# EAGLE library part MOD_MDBT40 (library akita)
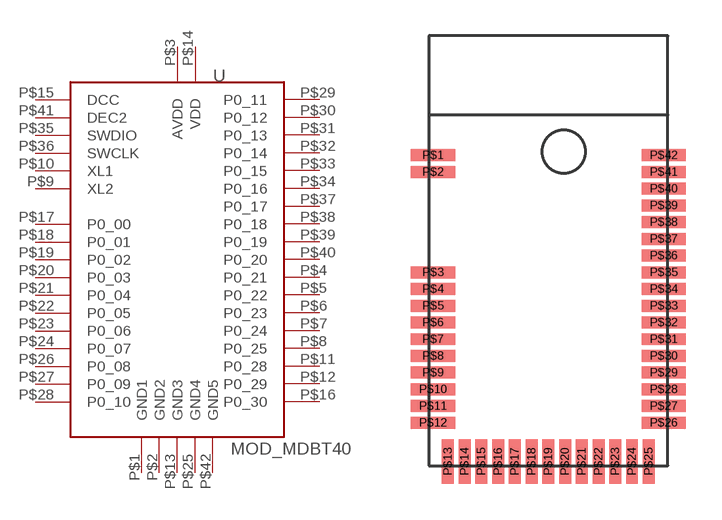
[diagram p124: symbol with the pads of MOD_MDBT40; footprint MOD_MDBT40]

Designator prefix -

## MOD_MDBT40  [MOD_MDBT40]
P$1  GND1
P$2  GND2
P$3  AVDD
P$4  P0_21
P$5  P0_22
P$6  P0_23
P$7  P0_24
P$8  P0_25
P$9  XL2
P$10  XL1
P$11  P0_28
P$12  P0_29
P$13  GND3
P$14  VDD
P$15  DCC
P$16  P0_30
P$17  P0_00
P$18  P0_01
P$19  P0_02
P$20  P0_03
P$21  P0_04
P$22  P0_05
P$23  P0_06
P$24  P0_07
P$25  GND4
P$26  P0_08
P$27  P0_09
P$28  P0_10
P$29  P0_11
P$30  P0_12
P$31  P0_13
P$32  P0_14
P$33  P0_15
P$34  P0_16
P$35  SWDIO
P$36  SWCLK
P$37  P0_17
P$38  P0_18
P$39  P0_19
P$40  P0_20
P$41  DEC2
P$42  GND5

## Footprint MOD_MDBT40 (pad centres in mm)
smd 1.85 x 0.5: P$1 -4.825,4; P$2 -4.825,3.3; P$3 -4.825,-0.9; P$4 -4.825,-1.6; P$5 -4.825,-2.3; P$6 -4.825,-3; P$7 -4.825,-3.7; P$8 -4.825,-4.4; P$9 -4.825,-5.1; P$10 -4.825,-5.8; P$11 -4.825,-6.5; P$12 -4.825,-7.2; P$26 4.825,-7.2; P$27 4.825,-6.5; P$28 4.825,-5.8; P$29 4.825,-5.1; P$30 4.825,-4.4; P$31 4.825,-3.7; P$32 4.825,-3; P$33 4.825,-2.3; P$34 4.825,-1.6; P$35 4.825,-0.9; P$36 4.825,-0.2; P$37 4.825,0.5; P$38 4.825,1.2; P$39 4.825,1.9; P$40 4.825,2.6; P$41 4.825,3.3; P$42 4.825,4
smd 0.5 x 1.85: P$13 -4.2,-8.825; P$14 -3.5,-8.825; P$15 -2.8,-8.825; P$16 -2.1,-8.825; P$17 -1.4,-8.825; P$18 -0.7,-8.825; P$19 0,-8.825; P$20 0.7,-8.825; P$21 1.4,-8.825; P$22 2.1,-8.825; P$23 2.8,-8.825; P$24 3.5,-8.825; P$25 4.2,-8.825